# EAGLE library part DPA422-426 (library power_integrations)
The DPA-Switch IC family is a highly integrated solution for DC-DC conversion applications with 16‑75 VDC input. DPA-Switch uses the same proven topology as TOPSwitch®, cost effectively integrating a power MOSFET, PWM control, fault protection and other control circuitry onto a single CMOS chip. High performance features are enabled with three user configurable pins. Hysteretic thermal shutdown is also provided. In addition, all critical parameters (i.e. current limit, frequency, PWM gain) have tight temperature and absolute tolerance, to simplify design and reduce system cost.
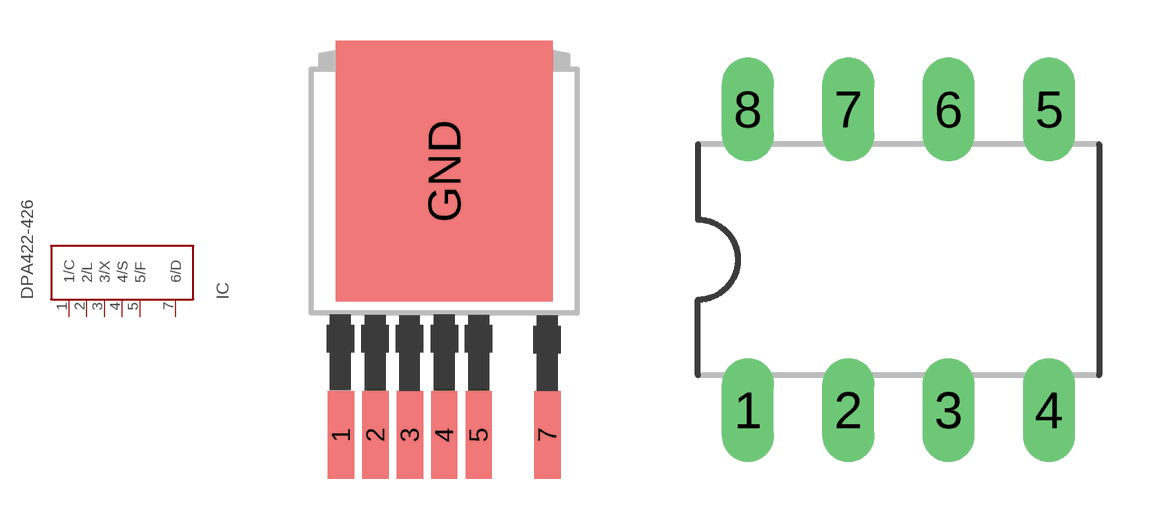
[diagram p4: symbol with the pads of TO263-7C(R_PACKAGE); footprints TO263-7C(R_PACKAGE), DIL08]

Designator prefix IC

## DPA422-426  [TO263-7C(R_PACKAGE)]
1  1/C
2  2/L
3  3/X
4  4/S
5  5/F
7  6/D

## DPA422-426DIL08  [DIL08]
1  1/C
2  2/L
3  3/X
4  5/F
5  4/S
6  6/D

## DPA422-426DIP8  [DIP8]
Pads as for DIL08

## Footprint TO263-7C(R_PACKAGE) (pad centres in mm)
Transistor Outline Package P-TO263-5-1 SIEMENS TLE4270
smd 0.97 x 3.25: 1 -3.81,-6.35; 2 -2.54,-6.35; 3 -1.27,-6.35; 4 0,-6.35; 5 1.27,-6.35; 7 3.81,-6.35
smd 8 x 9.65: GND 0,3.4

## Footprint DIL08 (pad centres in mm)
Dual In Line Package
drill 0.813 long: 1 -3.81,-3.81; 2 -1.27,-3.81; 3 1.27,-3.81; 4 3.81,-3.81; 5 3.81,3.81; 6 1.27,3.81; 7 -1.27,3.81; 8 -3.81,3.81

## Footprint DIP8 (pad centres in mm)
SMD DIL08 dual in line package'
smd 1.2 x 2.2: 1 -3.81,-3.8; 2 -1.27,-3.8; 3 1.27,-3.8; 4 3.81,-3.8; 5 3.81,3.8; 6 1.27,3.8; 7 -1.27,3.8; 8 -3.81,3.8